# EAGLE library part 87264-18 (library con-molex-milli-grid)
RECEPTACAL
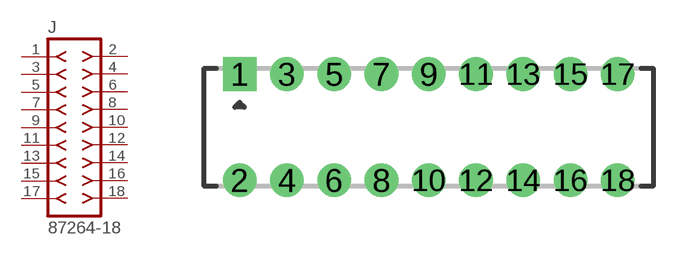
[diagram p210: symbol with the pads of 87264-18; footprint 87264-18]

Designator prefix J

## 87264-18  [87264-18]
1  1  pas
2  2  pas
3  3  pas
4  4  pas
5  5  pas
6  6  pas
7  7  pas
8  8  pas
9  9  pas
10  10  pas
11  11  pas
12  12  pas
13  13  pas
14  14  pas
15  15  pas
16  16  pas
17  17  pas
18  18  pas

## Footprint 87264-18 (pad centres in mm)
RECEPTACAL Dual Row, Side Entry
drill 0.914 square: 1 -8,2.25
drill 0.914: 2 -8,-2.25; 3 -6,2.25; 4 -6,-2.25; 5 -4,2.25; 6 -4,-2.25; 7 -2,2.25; 8 -2,-2.25; 9 0,2.25; 10 0,-2.25; 11 2,2.25; 12 2,-2.25; 13 4,2.25; 14 4,-2.25; 15 6,2.25; 16 6,-2.25; 17 8,2.25; 18 8,-2.25